# Altium footprint library QUTMS_PCBLibrary.PcbLib: 30 footprints (part 1 of 2)
Each footprint in its own frame and in the unit in brackets; x right, y up, seen from the top. Pads: shape width x height; smd on the part's side, far side on the other; paste and mask are expansions set on the pad; w line width, h text height; cw(c..) or ccw(c..) is an arc to the next point about the centre after c.
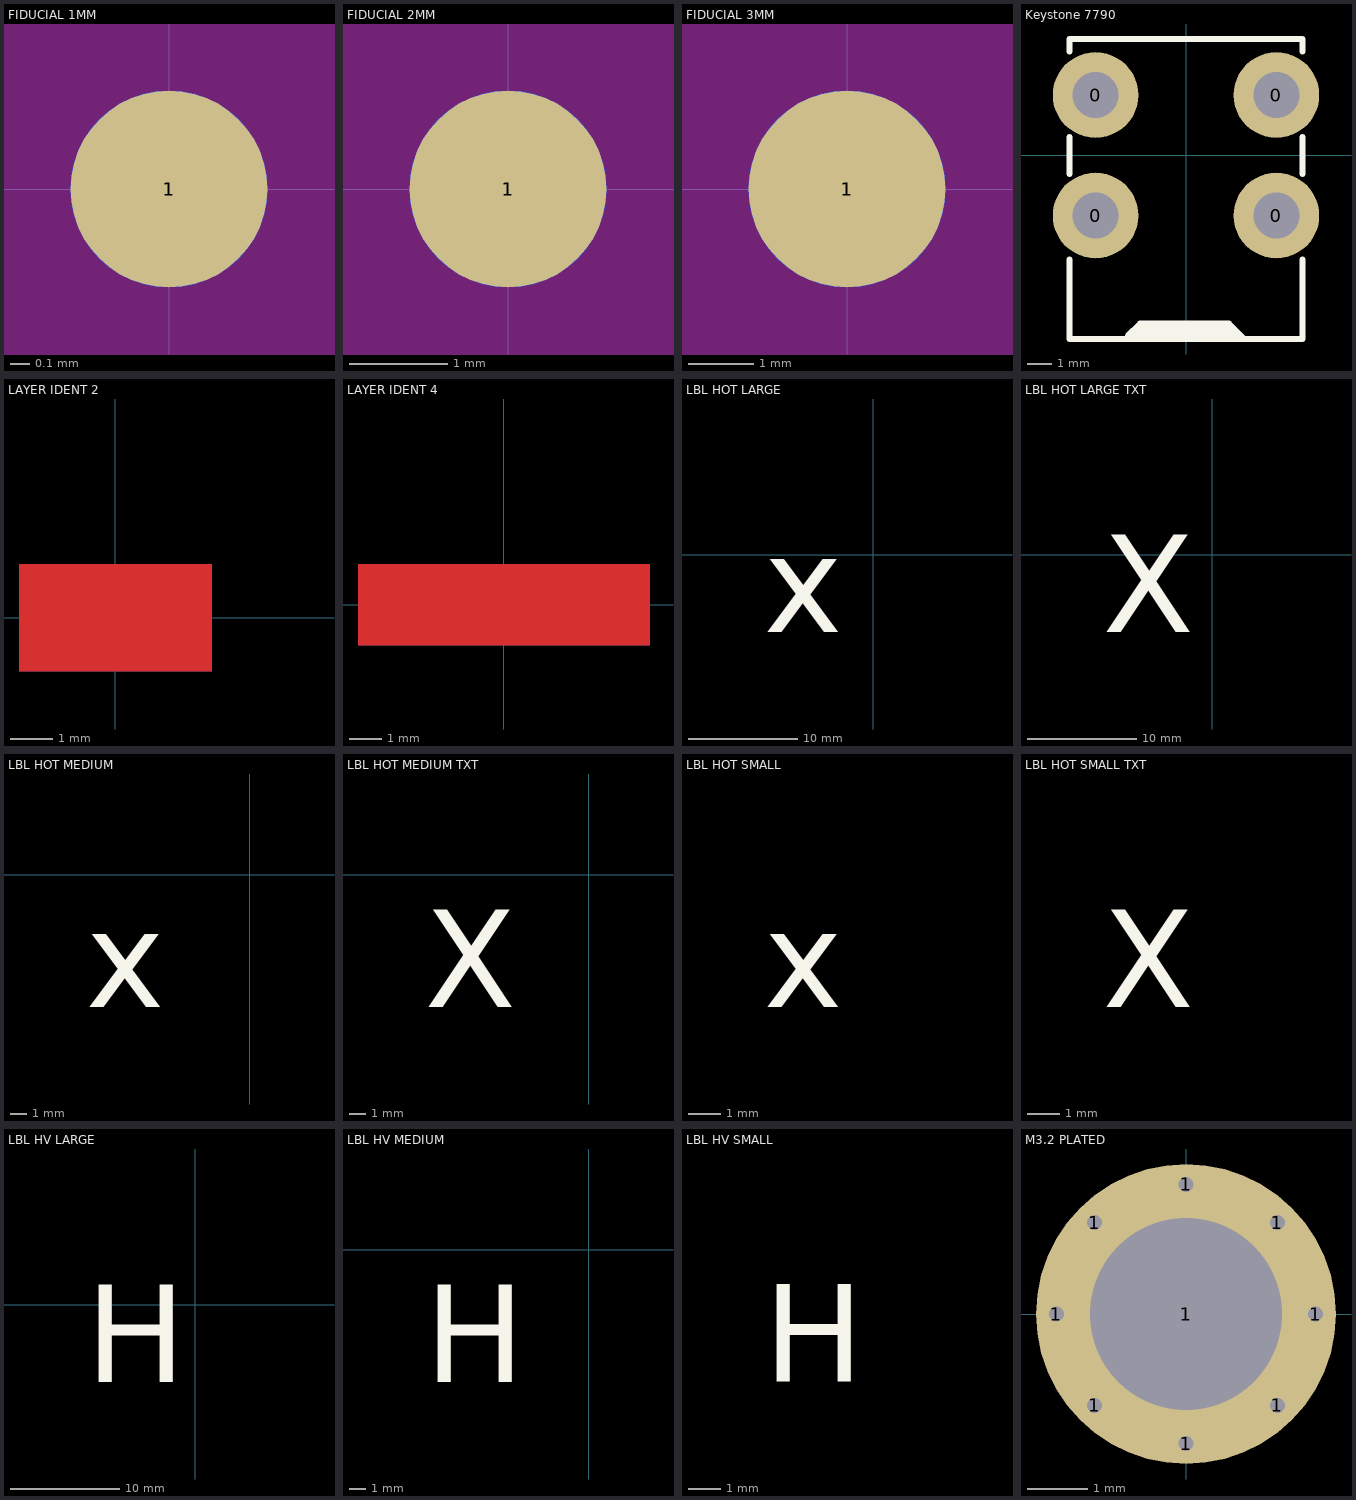
[diagram p0: the footprints below, top view; thin cyan lines are the x and y axes]

## FIDUCIAL 1MM [mm]
pads (2):
  round 1 smd mask+1: 1(0,0)
  round 1 smd far side mask+1: 1(0,0)
Keep-Out Layer:
  circle w1.524: c0,0 r0.762

## FIDUCIAL 2MM [mm]
pads (2):
  round 2 smd far side mask+2: 1(0,0)
  round 2 smd mask+2: 1(0,0)
Keep-Out Layer:
  circle w3.048: c0,0 r1.524

## FIDUCIAL 3MM [mm]
pads (2):
  round 3 smd mask+3: 1(0,0)
  round 3 smd far side mask+3: 1(0,0)
Keep-Out Layer:
  circle w4.572: c0,0 r2.286

## Keystone 7790 [mil] "4 Pin Screw Terminal, Power Tap M3 Through Hole, Right Angle"
pads (4):
  round 140 hole 75: 0(-147.64,-98.43) 0(-147.64,98.43) 0(147.64,-98.43) 0(147.64,98.43)
Top Overlay:
  lines w10: -190,-170 -190,-300 190,-300 190,-170 ; -190,-30 -190,30 ; -190,170 -190,190 -90.51,190 96.5,190 190,190 190,170 ; -95,-295 -75,-275 0,-275 70,-275 95,-300 85,-300 65,-280 -70,-280 -85,-295 ; -80,-300 75,-300 ; -77.5,-287.5 72.5,-287.5 75,-290 ; -75,-295 -70,-290 75,-290 ; -65,-295 70,-295 75,-290 ; 190,-30 190,30
3D body "keystone-PN7790.STEP": height 322, standoff -190, extent -194.63,-300 184.63,153.1

## LAYER IDENT 2 [mil]
Top Layer:
  pour cut-out: -20,-5
  pour cut-out: -10,30
  pour cut-out: -90,50 -90,-50 90,-50 90,50
  pour cut-out: 190,150
  text "1" at -55,-30 h60
Bottom Layer:
  pour cut-out: -90,50 -90,-50 90,-50 90,50
  text "2" at 25,-30 h60

## LAYER IDENT 4 [mil]
Top Layer:
  pour cut-out: 190,150
  pour cut-out: -180,50 -180,-50 180,-50 180,50
  pour cut-out: -100,30
  pour cut-out: -110,-5
  pour cut-out: 80,30
  pour cut-out: 70,-5
  text "1" at -145,-30 h60
Layer 1:
  pour cut-out: -180,50 -180,-50 180,-50 180,50
  text "2" at -65,-30 h60
Layer 2:
  pour cut-out: -180,50 -180,-50 180,-50 180,50
  text "3" at 25,-30 h60
Bottom Layer:
  pour cut-out: -180,50 -180,-50 180,-50 180,50
  text "4" at 115,-30 h60

## LBL HOT LARGE [mil]
Top Overlay:
  text "x" at -393.7,-393.7 h600

## LBL HOT LARGE TXT [mil]
Top Overlay:
  text "X" at -393.7,-393.7 h600

## LBL HOT MEDIUM [mil]
Top Overlay:
  text "x" at -393.7,-393.7 h400

## LBL HOT MEDIUM TXT [mil]
Top Overlay:
  text "X" at -393.7,-393.7 h400

## LBL HOT SMALL [mil]
Top Overlay:
  text "x" at -393.7,-393.7 h200

## LBL HOT SMALL TXT [mil]
Top Overlay:
  text "X" at -393.7,-393.7 h200

## LBL HV LARGE [mil]
Top Overlay:
  text "H" at -393.7,-393.7 h600

## LBL HV MEDIUM [mil]
Top Overlay:
  text "H" at -393.7,-393.7 h400

## LBL HV SMALL [mil]
Top Overlay:
  text "H" at -393.7,-393.7 h200

## M3.2 PLATED [mil]
pads (9):
  round 20 hole 10: 1(-85,0) 1(-60,-60) 1(-60,60) 1(0,-85) 1(0,85) 1(60,-60) 1(60,60) 1(85,0)
  round 196.85 hole 125.98: 1(0,0)